# Altium footprint library Connectors.PcbLib: 28 footprints (part 1 of 2)
Each footprint in its own frame and in the unit in brackets; x right, y up, seen from the top. Pads: shape width x height; smd on the part's side, far side on the other; paste and mask are expansions set on the pad; w line width, h text height; cw(c..) or ccw(c..) is an arc to the next point about the centre after c.
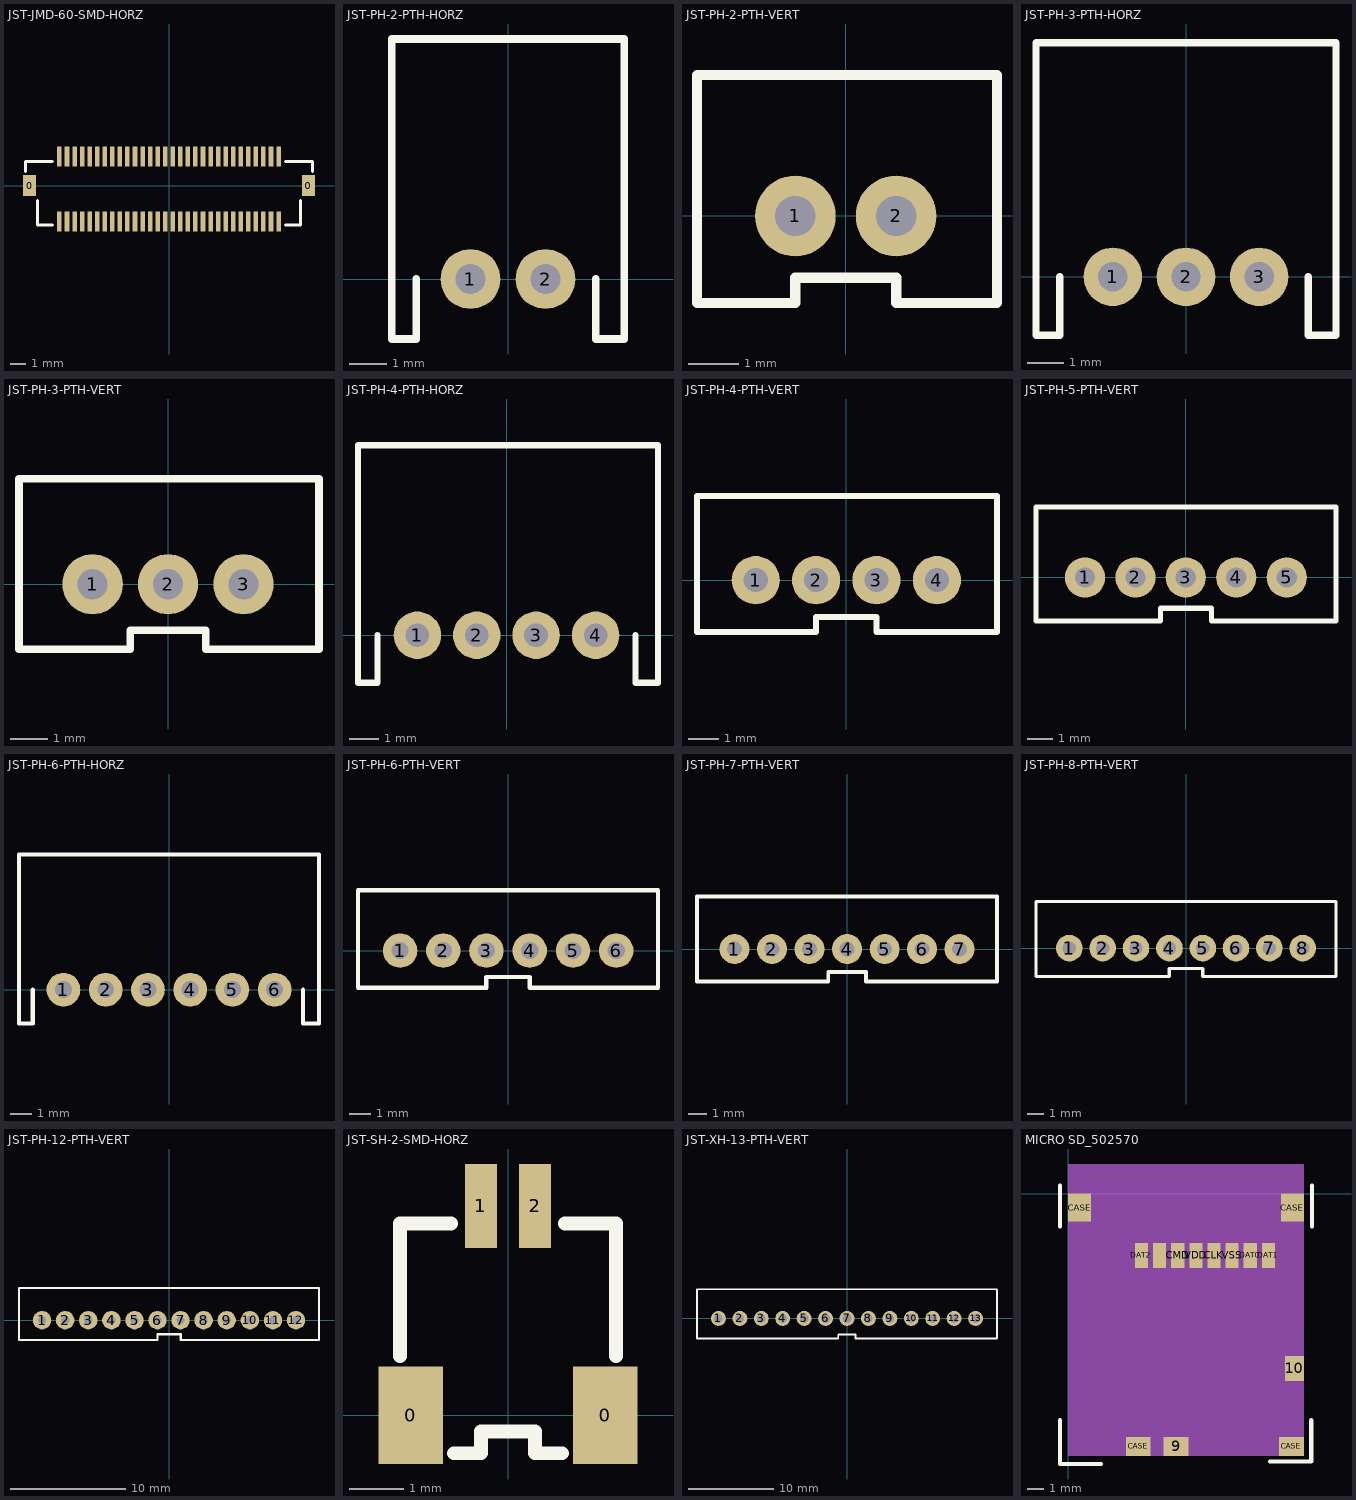
[diagram p0: the footprints below, top view; thin cyan lines are the x and y axes]

## JST-JMD-60-SMD-HORZ [mm]
pads (64):
  rect 0.85x1.4 smd: 0(-9.225,0) 0(9.225,0)
  rect 0.3x1.35 smd: 1(-7.25,1.925) 1(-7.25,1.925) 2(-6.75,1.925) 3(-6.25,1.925) 4(-5.75,1.925) 5(-5.25,1.925) 6(-4.75,1.925) 7(-4.25,1.925) 8(-3.75,1.925) 9(-3.25,1.925) 10(-2.75,1.925) 11(-2.25,1.925) 12(-1.75,1.925) 13(-1.25,1.925) 14(-0.75,1.925) 15(-0.25,1.925) 16(0.25,1.925) 17(0.75,1.925) 18(1.25,1.925) 19(1.75,1.925) 20(2.25,1.925) 21(2.75,1.925) 22(3.25,1.925) 23(3.75,1.925) 24(4.25,1.925) 25(4.75,1.925) 26(5.25,1.925) 27(5.75,1.925) 28(6.25,1.925) 29(6.75,1.925) 30(7.25,1.925) 31(7.25,-2.375) 31(7.25,-2.375) 32(6.75,-2.375) 33(6.25,-2.375) 34(5.75,-2.375) 35(5.25,-2.375) 36(4.75,-2.375) 37(4.25,-2.375) 38(3.75,-2.375) 39(3.25,-2.375) 40(2.75,-2.375) 41(2.25,-2.375) 42(1.75,-2.375) 43(1.25,-2.375) 44(0.75,-2.375) 45(0.25,-2.375) 46(-0.25,-2.375) 47(-0.75,-2.375) 48(-1.25,-2.375) 49(-1.75,-2.375) 50(-2.25,-2.375) 51(-2.75,-2.375) 52(-3.25,-2.375) 53(-3.75,-2.375) 54(-4.25,-2.375) 55(-4.75,-2.375) 56(-5.25,-2.375) 57(-5.75,-2.375) 58(-6.25,-2.375) 59(-6.75,-2.375) 60(-7.25,-2.375)
Top Overlay:
  lines w0.2: -9.5,0.95 -9.5,1.6 -7.7,1.6 ; -8.7,-1 -8.7,-2.6 -7.7,-2.6 ; 7.7,-2.6 8.7,-2.6 8.7,-1 ; 7.7,1.6 9.5,1.6 9.5,0.95
3D body "60PS-JMDSS-G-1-TF.STEP": height 4.73, standoff -0.07, extent -9.55,-2.8 9.55,2.35

## JST-PH-2-PTH-HORZ [mm]
pads (2):
  round 1.6 hole 0.8: 1(-1,0) 2(1,0)
Top Overlay:
  lines w0.203: -2.45,0 -2.45,-1.6 -3.1,-1.6 -3.1,6.4 3.1,6.4 3.1,-1.6 2.34,-1.6 2.34,0
3D body "S2B-PH-K-S.STEP": height 4.8, standoff -3.4, extent -2.95,-1.35 2.95,6.25

## JST-PH-2-PTH-VERT [mm]
pads (2):
  round 1.6 hole 0.8: 1(-1,0) 2(1,0)
Top Overlay:
  lines w0.203: -2.95,-1.723 -1,-1.723 -1,-1.223 1,-1.223 1,-1.723 3,-1.723 3,2.794 -2.95,2.794 -2.95,-1.723
3D body "B2B-PH-K-S.STEP": height 6, standoff -3.4, extent -2.95,-1.7 2.95,2.8

## JST-PH-3-PTH-HORZ [mil]
pads (3):
  round 63 hole 31.5: 1(-78.74,0) 2(0,0) 3(78.74,0)
Top Overlay:
  lines w8: -135.81,0 -135.81,-62.99 -161.4,-62.99 -161.4,251.97 161.42,251.97 161.42,-62.99 131.48,-62.99 131.48,0
3D body "S3B-PH-K-S.STEP": height 188.98, standoff -133.86, extent -155.51,-53.15 155.51,246.06

## JST-PH-3-PTH-VERT [mil]
pads (3):
  round 63 hole 31.5: 1(-78.74,0) 2(0,0) 3(78.74,0)
Top Overlay:
  lines w7.99: -155.51,-67.84 -39.37,-67.84
  lines w8: -155.51,-67.84 -155.51,110 157.48,110 157.48,-67.84 39.37,-67.84 39.37,-48.16 -39.37,-48.16 -39.37,-67.84
3D body "B3B-PH-K-S.STEP": height 236.22, standoff -133.86, extent -154.52,-66.92 156.5,110.24

## JST-PH-4-PTH-HORZ [mil]
pads (4):
  round 63 hole 31.5: 1(-118.37,0) 2(-39.63,0) 3(39.11,0) 4(118.11,0)
Top Overlay:
  lines w8: -171.52,0 -171.52,-62.99 -197.11,-62.99 -197.11,251.97 200.79,251.97 200.79,-62.99 170.85,-62.99 170.85,0
3D body "S4B-PH-K-S.STEP": height 196.85, standoff -125.98, extent -194.88,-53.15 194.88,246.06

## JST-PH-4-PTH-VERT [mil]
pads (4):
  round 63 hole 31.5: 1(-118.11,0) 2(-39.37,0) 3(39.37,0) 4(118.37,0)
Top Overlay:
  lines w8: -194.88,-67.84 -194.88,110 196.85,110 196.85,-67.84 39.37,-67.84 39.37,-48.16 -39.37,-48.16 -39.37,-67.84 -194.88,-67.84
3D body "B4B-PH-K-S.STEP": height 236.22, standoff -133.86, extent -194.88,-66.92 194.89,110.24

## JST-PH-5-PTH-VERT [mil]
pads (5):
  round 63 hole 31.5: 1(-157.48,0) 2(-78.74,0) 3(0,0) 4(79,0) 5(158,0)
Top Overlay:
  lines w8: -234.25,-67.84 -234.25,110 235,110 235,-67.84 40,-67.84 40,-48.16 -39.37,-48.16 -39.37,-67.84 -234.25,-67.84
3D body "B5B-PH-K-S.STEP": height 236.22, standoff -133.86, extent -236.22,-68.9 232.28,108.27

## JST-PH-6-PTH-HORZ [mm]
pads (6):
  round 1.6 hole 0.8: 1(-5,0) 2(-3,0) 3(-1,0) 4(1,0) 5(3,0) 6(5,0)
Top Overlay:
  lines w0.203: -7.107,6.4 -7.107,-1.6 -6.457,-1.6 -6.457,0 ; -7.1,6.4 7.1,6.4 7.1,-1.6 6.34,-1.6 6.34,0
3D body "S6B-PH-K-S.STEP": height 5, standoff -3.2, extent -6.95,-1.325 6.95,6.275

## JST-PH-6-PTH-VERT [mil]
pads (6):
  round 63 hole 31.5: 1(-196.85,0) 2(-118.11,0) 3(-39.37,0) 4(39.63,0) 5(118.63,0) 6(197.37,0)
Top Overlay:
  lines w7.87: -273.62,-67.84 -39.37,-67.84 ; 40,-67.84 273.62,-67.84
  lines w8: -273.62,-67.84 -273.62,110 271.65,110 ; -39.37,-67.84 -39.37,-48.16 40,-48.16 40,-67.84 ; 273.62,-67.84 273.62,110
3D body "B6B-PH-K-S.STEP": height 236.22, standoff -133.86, extent -273.62,-66.93 273.62,110.24

## JST-PH-7-PTH-VERT [mil]
pads (7):
  round 63 hole 31.5: 1(-236.22,0) 2(-157.48,0) 3(-78.74,0) 4(0.26,0) 5(79.26,0) 6(157.48,0) 7(236.22,0)
Top Overlay:
  lines w8: -314.96,-67.84 -39.37,-67.84 -39.37,-48.16 40,-48.16 40,-67.84 314.96,-67.84 314.96,110 -314.96,110 -314.96,-67.84
3D body "B7B-PH-K-S.STEP": height 236.22, standoff -133.86, extent -316.93,-66.93 309.06,110.23

## JST-PH-8-PTH-VERT [mil]
pads (8):
  round 63 hole 31.5: 1(-275.59,0) 2(-196.85,0) 3(-118.11,0) 4(-39.11,0) 5(39.89,0) 6(118.11,0) 7(196.85,0) 8(275.59,0)
Top Overlay:
  lines w8: -354.33,-66.93 -39.37,-66.93 -39.37,-48.16 39.37,-48.16 39.37,-66.93 354.33,-66.93 354.33,110 -354.33,110 -354.33,-66.93
3D body "B8B-PH-K-S.STEP": height 236.22, standoff -133.86, extent -352.36,-67.16 352.36,110

## JST-PH-12-PTH-VERT [mil]
pads (12):
  round 63 hole 28: 1(-433.07,0) 2(-354.33,0) 3(-275.59,0) 4(-196.59,0) 5(-117.59,0) 6(-39.37,0) 7(39.37,0) 8(118.11,0) 9(196.85,0) 10(275.85,0) 11(354.85,0) 12(433.07,0)
Top Overlay:
  lines w8: -511.81,-67.84 -511.81,110 511.81,110 511.81,-67.84 40,-67.84 40,-48.16 -39.37,-48.16 -39.37,-67.84 -511.81,-67.84
3D body "B12B-PH-K-S.STEP": height 236.22, standoff -133.86, extent -511.81,-70.87 507.87,106.3

## JST-SH-2-SMD-HORZ [mm]
pads (4):
  rect 1.2x1.8 smd: 0(-1.8,0) 0(1.8,0)
  rect 0.6x1.55 smd: 1(-0.5,3.875) 2(0.5,3.875)
Top Overlay:
  lines w0.254: -2,1.1 -2,3.55 -1.05,3.55 ; -1,-0.7 -0.5,-0.7 -0.5,-0.3 0.5,-0.3 0.5,-0.7 1,-0.7 ; 1.05,3.55 2,3.55 2,1.1
3D body "SM02B-SRSS-TB.STEP": height 2.96, standoff 0, extent -2,-0.7 2,4.25

## JST-XH-13-PTH-VERT [mm]
pads (13):
  round 1.75 hole 1: 1(-15,0) 2(-12.5,0) 3(-10,0) 4(-7.5,0) 5(-5,0) 6(-2.5,0) 7(0,0) 8(2.5,0) 9(5,0) 10(7.5,0) 11(10,0) 12(12.5,0) 13(15,0)
Top Overlay:
  lines w0.203: -1.03,-2.35 -17.5,-2.35 -17.5,3.4 17.5,3.4 ; -1.014,-2.358 -1.014,-1.858 1.002,-1.858 1.002,-2.358 ; 1.002,-2.35 17.45,-2.35 17.5,-2.3 17.5,3.3
3D body "B13B-XH-A.STEP": height 7, standoff -3.4, extent -17.45,-2.375 17.45,3.375

## MICRO SD_502570 [mm] "TOP MOUNT / FRONT"
pads (14):
  rect 1.5x1.15 smd: 9(6.55,-15.325) CASE(4.25,-15.325) CASE(13.55,-15.325)
  rect 1.15x1.5 smd: 10(13.725,-10.6)
  rect 1.4x1.7 smd: CASE(0.7,-0.85) CASE(13.6,-0.85)
  rect 0.8x1.5 smd: CD/DAT3(5.55,-3.75) CLK(8.85,-3.75) CMD(6.65,-3.75) DAT0(11.05,-3.75) DAT1(12.15,-3.75) DAT2(4.45,-3.75) VDD(7.75,-3.75) VSS(9.95,-3.75)
Top Overlay:
  lines w0.254: -0.5,-13.75 -0.5,-16.4 2,-16.4 ; -0.5,-2 -0.5,0.5 ; 12.25,-16.25 14.75,-16.25 14.75,-13.75 ; 14.8,-2 14.8,0.5
Mechanical 13:
  rectangle: 13.35,-9.65 13.85,-8.65
  rectangle: 11.4,-14.55 14.3,-13.15
Mechanical 15:
  rectangle: 0,-15.9 14.3,1.8
3D body "5025700893.stp": height 1.9, standoff 0.1, extent 0.35,-15.75 14.15,-0.25